# Altium footprint library 1206.PcbLib: 1 footprints
Each footprint in its own frame and in the unit in brackets; x right, y up, seen from the top. Pads: shape width x height; smd on the part's side, far side on the other; paste and mask are expansions set on the pad; w line width, h text height; cw(c..) or ccw(c..) is an arc to the next point about the centre after c.
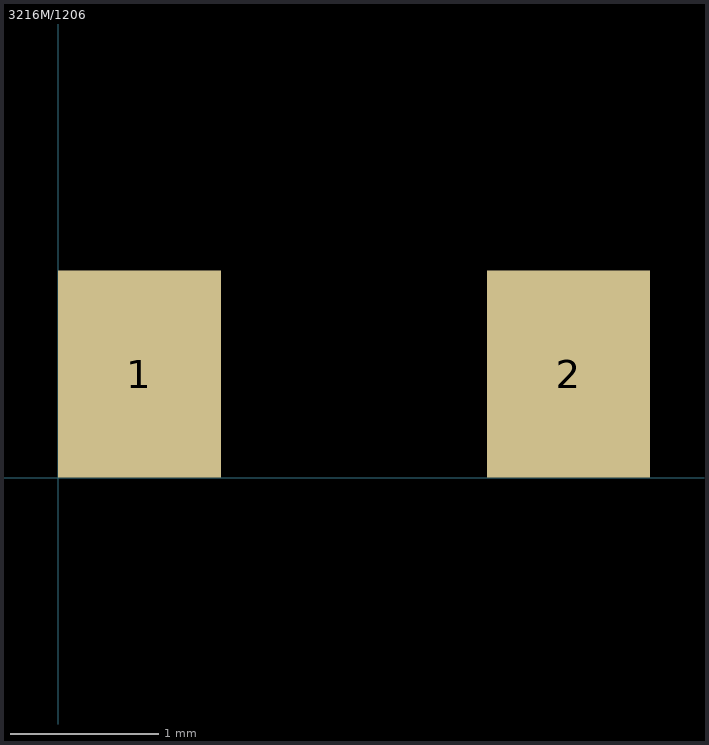
[diagram p0: the footprint, top view; thin cyan lines are the x and y axes]

## 3216M/1206 [mm]
pads (2):
  rect 1.1x1.4 / inner round 0 / far side round 0 all layers, no hole: 1(0.55,0.7) 2(3.45,0.7)
3D body "GRM3195C2A473GA01D.STEP": height 0.95, standoff 0, extent 0.4,-0.1 3.6,1.5